# Altium footprint library CapacitorsforLMR51420.PcbLib: 1 footprints
Each footprint in its own frame and in the unit in brackets; x right, y up, seen from the top. Pads: shape width x height; smd on the part's side, far side on the other; paste and mask are expansions set on the pad; w line width, h text height; cw(c..) or ccw(c..) is an arc to the next point about the centre after c.
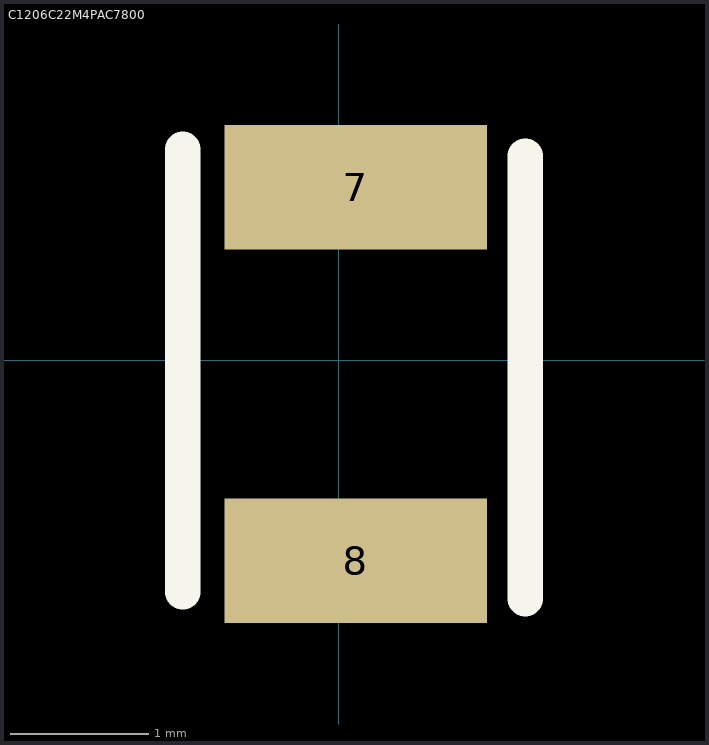
[diagram p0: the footprint, top view; thin cyan lines are the x and y axes]

## C1206C22M4PAC7800 [mm] "22uF 16V X5R 1206"
pads (2):
  rect 1.9x0.9 smd: 7(0.121,1.25) 8(0.121,-1.45)
Top Overlay:
  lines w0.254: -1.129,-1.675 -1.129,1.525 ; 1.346,-1.725 1.346,1.475